# EAGLE library part SI4562DY-T1-E3 (library nickZhang)
Si4562DY-T1-E3 Vishay N- and P-Channel 2.5-V (G-S) MOSFET Comments: Used on original Kyosho Mini-z MR03 for H bridge driving drive motor Datasheet <Datasheet: https://www.vishay.com/docs/70717/70717.pdf>
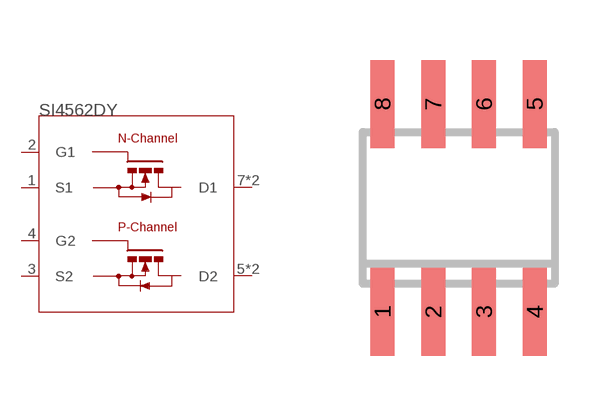
[diagram p2: symbol with the pads of SO-08; footprint SO-08]

Designator prefix -

## SI4562DY-T1-E3  [SO-08]
1  S1
2  G1
3  S2
4  G2
5  D2
6  D2
7  D1
8  D1

## Footprint SO-08 (pad centres in mm)
Small Outline Narrow Plastic Gull Wing 150-mil body, package type SN
smd 0.6 x 2.2: 1 -1.905,-2.6; 2 -0.635,-2.6; 3 0.635,-2.6; 4 1.905,-2.6; 5 1.905,2.6; 6 0.635,2.6; 7 -0.635,2.6; 8 -1.905,2.6